# Altium footprint library Movandi_15.PcbLib: 4 footprints
Each footprint in its own frame and in the unit in brackets; x right, y up, seen from the top. Pads: shape width x height; smd on the part's side, far side on the other; paste and mask are expansions set on the pad; w line width, h text height; cw(c..) or ccw(c..) is an arc to the next point about the centre after c.
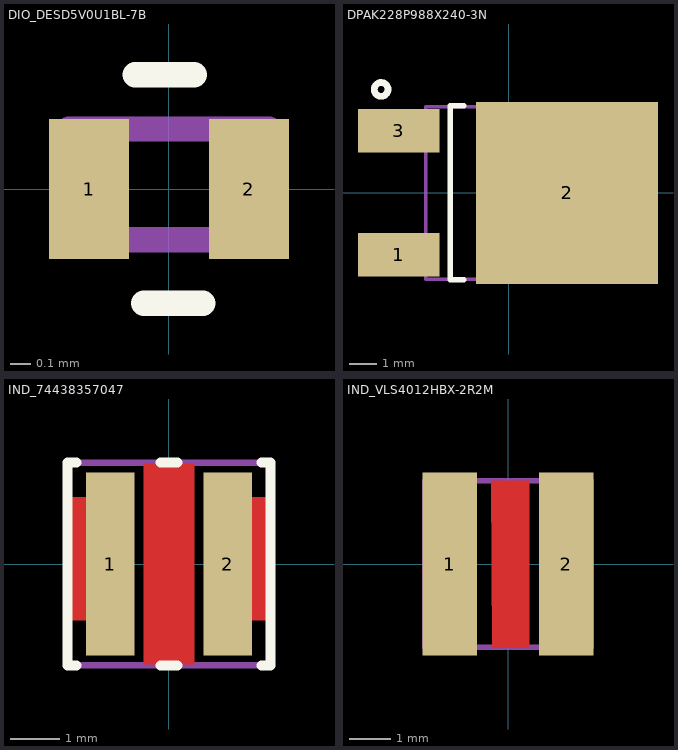
[diagram p0: the footprints below, top view; thin cyan lines are the x and y axes]

## DIO_DESD5V0U1BL-7B [mm]
height 0.53
pads (2):
  rect 0.4x0.7 smd: 1(-0.4,0) 2(0.4,0)
Top Overlay:
  lines w0.127: -0.17,0.571 0.127,0.571 ; -0.127,-0.571 0.17,-0.571
Mechanical 1:
  text "'.Designator'" at 0,0.191 h1.02
Mechanical 15:
  lines w0.127: -0.5,-0.254 0.5,-0.254 0.5,0.3 -0.5,0.3 -0.5,-0.254
3D body: height 0.53, standoff 0.01, extent -0.5,-0.254 0.5,0.3

## DPAK228P988X240-3N [mm] "D-PAK, 3-Pads, Body 6.47x6.54mm (max), IPC Medium Density"
height 2.4
pads (3):
  rect 3x1.6 smd: 1(-4.05,-2.28) 3(-4.05,2.28)
  rect 6.7x6.7 smd: 2(2.15,0)
Top Overlay:
  circle w0.25: c-4.699,3.81 r0.254
  lines w0.203: -1.65,-3.2 -2.15,-3.2 -2.15,3.2 -1.65,3.2
Mechanical 1:
  text "'.Designator'" at 0,0.191 h1.02
Mechanical 15:
  circle w0.25: c-4.05,2.28 r0.254
  lines w0.127: -3.05,-3.175 3.68,-3.175 3.68,3.175 -3.05,3.175 -3.05,-3.175
3D body "DPAK228P988X240-3N.step": height 3.3, standoff 0, extent -4.56,-3.175 5.315,3.175

## IND_74438357047 [mm]
height 3.1
pads (2):
  rect 0.98x3.7 smd: 1(-1.185,0) 2(1.185,0)
Top Layer:
  rectangle: 1.185,-1.143 2.078,1.36
  region: -1.185,1.36 -2.078,1.36 -2.078,-1.143 -1.185,-1.143
  pour cut-out: -0.508,-2.032 -0.508,2.032 0.508,2.032 0.508,-2.032
  pour cut-out: -0.508,1.778
Top Overlay:
  lines w0.203: -1.87,-2.05 -2.05,-2.05 -2.05,2.05 -1.87,2.05 ; -0.17,-2.05 0.17,-2.05 ; -0.17,2.05 0.17,2.05 ; 1.87,-2.05 2.05,-2.05 2.05,2.05 1.87,2.05
Mechanical 1:
  text "'.Designator'" at 0,0.191 h1.02
Mechanical 15:
  lines w0.127: -2.05,-2.05 2.05,-2.05 2.05,2.05 -2.05,2.05 -2.05,-2.05
3D body "74438357047_Download_WE-MAPI-4030_stp_rev1.stp": height 3.2, standoff 0.1, extent -2.05,-2.05 2.05,2.05

## IND_VLS4012HBX-2R2M [mm]
height 1.2
pads (2):
  rect 1.3x4.4 smd: 1(-1.4,0) 2(1.4,0)
Top Layer:
  pour cut-out: -0.407,2.002 0.505,2.002 0.505,-2.007 -0.374,-2.007
Mechanical 1:
  text "'.Designator'" at 0,0.191 h1.02
Mechanical 15:
  lines w0.127: -1.875,-2 -1.75,-2 ; -2,-2 -2,2 2,2 2,-2 -2,-2
3D body "vls4012hbx.step": height 1.19, standoff -0.01, extent -2.002,-2.005 2.002,2.005